# EAGLE library part 32U4 (library 32U4)
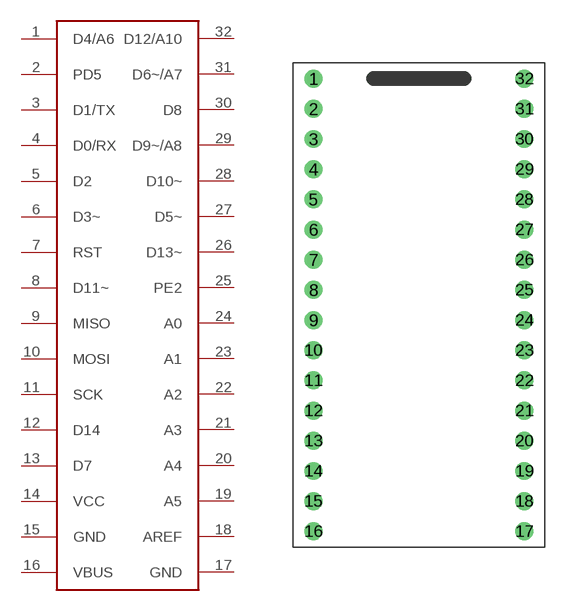
[diagram p0: symbol with the pads of DIP; footprint DIP]

Designator prefix -

## 32U4  [DIP]
1  D4/A6
2  PD5
3  D1/TX
4  D0/RX
5  D2
6  D3~
7  RST
8  D11~
9  MISO
10  MOSI
11  SCK
12  D14
13  D7
14  VCC
15  GND
16  VBUS
17  GND
18  AREF
19  A5
20  A4
21  A3
22  A2
23  A1
24  A0
25  PE2
26  D13~
27  D5~
28  D10~
29  D9~/A8
30  D8
31  D6~/A7
32  D12/A10

## Footprint DIP (pad centres in mm)
drill 1: 1 -8.89,19.05; 2 -8.89,16.51; 3 -8.89,13.97; 4 -8.89,11.43; 5 -8.89,8.89; 6 -8.89,6.35; 7 -8.89,3.81; 8 -8.89,1.27; 9 -8.89,-1.27; 10 -8.89,-3.81; 11 -8.89,-6.35; 12 -8.89,-8.89; 13 -8.89,-11.43; 14 -8.89,-13.97; 15 -8.89,-16.51; 16 -8.89,-19.05; 17 8.89,-19.05; 18 8.89,-16.51; 19 8.89,-13.97; 20 8.89,-11.43; 21 8.89,-8.89; 22 8.89,-6.35; 23 8.89,-3.81; 24 8.89,-1.27; 25 8.89,1.27; 26 8.89,3.81; 27 8.89,6.35; 28 8.89,8.89; 29 8.89,11.43; 30 8.89,13.97; 31 8.89,16.51; 32 8.89,19.05